# Altium footprint library BMS_2018.PcbLib: 2 footprints
Each footprint in its own frame and in the unit in brackets; x right, y up, seen from the top. Pads: shape width x height; smd on the part's side, far side on the other; paste and mask are expansions set on the pad; w line width, h text height; cw(c..) or ccw(c..) is an arc to the next point about the centre after c.
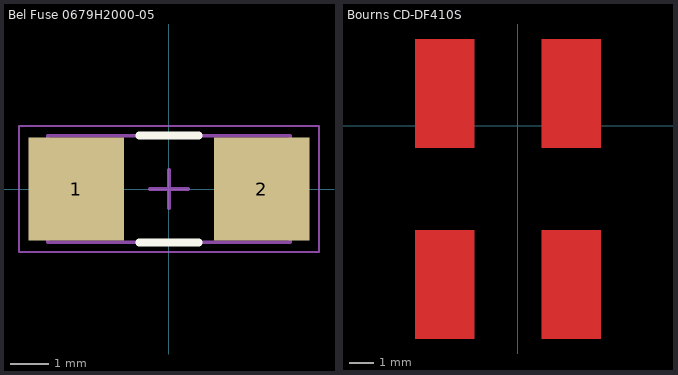
[diagram p0: the footprints below, top view; thin cyan lines are the x and y axes]

## Bel Fuse 0679H2000-05 [mm] "2A 350VAC 72VDC Fuse"
height 2.79
pads (2):
  rect 2.5x2.7 smd: 1(-2.425,0) 2(2.425,0)
Top Overlay:
  lines w0.2: -0.775,-1.4 0.775,-1.4 ; -0.775,1.4 0.775,1.4
Mechanical 13:
  lines w0.1: -3.175,-1.395 -3.175,1.395 3.175,1.395 3.175,-1.395 -3.175,-1.395
Mechanical 15:
  lines w0.05: -3.925,-1.65 -3.925,1.65 3.925,1.65 3.925,-1.65 -3.925,-1.65
  lines w0.1: -0.5,0 0.5,0 ; 0,-0.5 0,0.5
3D body: height 2.79, standoff 0, extent -3.175,-1.395 3.175,1.395

## Bourns CD-DF410S [mm] "1000V 4A Rectifier"
Top Layer:
  rectangle: -4.15,-0.9 -1.75,3.5
  rectangle: 0.95,-0.9 3.35,3.5
  rectangle: 0.95,-8.6 3.35,-4.2
  rectangle: -4.15,-8.6 -1.75,-4.2